# Altium footprint library iispHeader.PcbLib: 1 footprints
Each footprint in its own frame and in the unit in brackets; x right, y up, seen from the top. Pads: shape width x height; smd on the part's side, far side on the other; paste and mask are expansions set on the pad; w line width, h text height; cw(c..) or ccw(c..) is an arc to the next point about the centre after c.
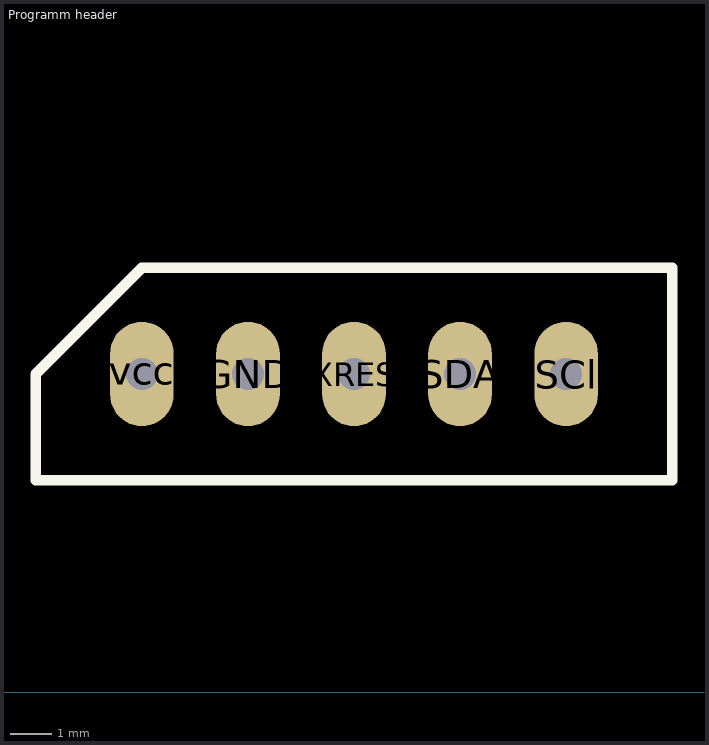
[diagram p0: the footprint, top view; thin cyan lines are the x and y axes]

## Programm header [mil]
pads (5):
  oval 60x98.43 hole 30: GND(700,300) SCl(1000,300) SDA(900,300) vcc(600,300) XRES(800,300)
Top Overlay:
  lines w10: 500,200 500,300 600,400 1100,400 1100,200 500,200